# Altium schematic symbol library ST.SchLib: 178 symbols (part 2 of 2)
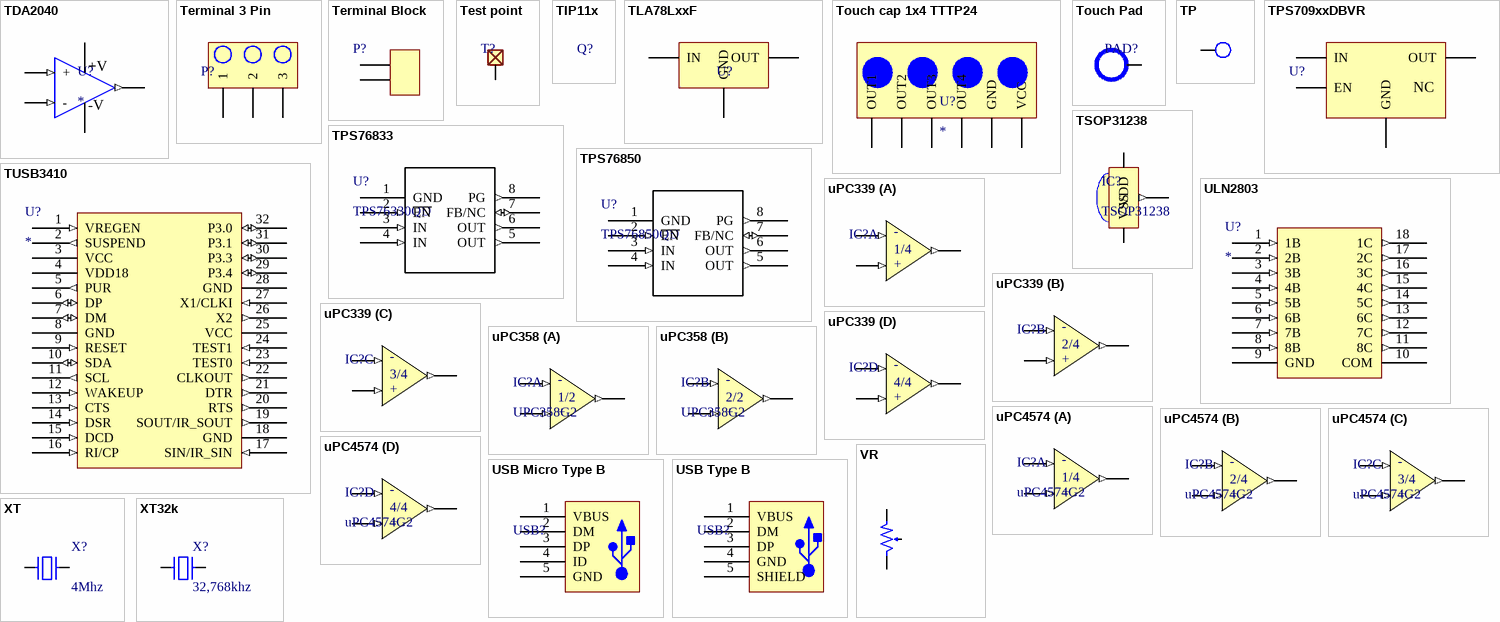
[diagram p6: symbols TDA2040 to XT32k]

## TUSB3410
designator U?
Manufacturer_Part_Number: TUSB3410_VF_32; GENERIC_PART_NUMBER: TUSB3410; Vendor: Texas Instruments; PACKAGE_DESIGNATOR: VF; PIN_COUNT: 32; FAMILY_NAME: USB PERIPHERAL; INDUSTRY_STD_PKG_TYPE: LQFP; Datasheet URL: http://www.ti.com/lit/gpn/TUSB3410; Manufacturer: Texas Instruments; RefDes: RefDes; Type: DEV; Value: Value
footprint LQFP 32pin
pins: 1 VREGEN (in), 2 SUSPEND (out), 3 VCC (power), 4 VDD18 (power), 5 PUR (out), 6 DP (io), 7 DM (io), 8 GND (power), 9 RESET (in), 10 SDA (io), 11 SCL (out), 12 WAKEUP (in), 13 CTS (in), 14 DSR (in), 15 DCD (in), 16 RI/CP (in), 17 SIN/IR_SIN (in), 18 GND (power), 19 SOUT/IR_SOUT (out), 20 RTS (out), 21 DTR (out), 22 CLKOUT (out), 23 TEST0 (in), 24 TEST1 (in), 25 VCC (power), 26 X2 (out), 27 X1/CLKI (in), 28 GND (power), 29 P3.4 (io), 30 P3.3 (io), 31 P3.1 (io), 32 P3.0 (io)

## ULN2803
designator U?
Manufacturer: Texas Instruments; GENERIC_PART_NUMBER: ULN2803A; INDUSTRY_STD_PKG_TYPE: SOIC; FAMILY_NAME: PERIPHERAL DRIVER AND ACTUATOR; PIN_COUNT: 18; PACKAGE_DESIGNATOR: DW; Datasheet URL: http://www.ti.com/lit/gpn/ULN2803A; RefDes: RefDes; Type: DEV; Value: Value
footprint SOIC16
footprint DIP18/W0.3 (18 PIN, W 300mil, Pin to pin 100mil)
pins: 1 1B (in), 2 2B (in), 3 3B (in), 4 4B (in), 5 5B (in), 6 6B (in), 7 7B (in), 8 8B (in), 9 GND (power), 10 COM, 11 8C (out), 12 7C (out), 13 6C (out), 14 5C (out), 15 4C (out), 16 3C (out), 17 2C (out), 18 1C (out)

## uPC339
designator IC?, comment UPC339G2  (value not drawn)
BIPOLAR ANALOG INTEGRATED CIRCUIT; Manufacturer: NEC; Specification: LOW POWER QUAD COMPARATOR; Manufacturer No: UPC339G2
footprint SOP14 (SOP, 14-Leads, Body 10.46x4.40mm, Pitch 1.27mm, IPC Medium Density)
part A pins: 2 (out), 4 (in), 5 (in)
part B pins: 1 (out), 6 (in), 7 (in)
part C pins: 8 (in), 9 (in), 14 (out)
part D pins: 3 hidden to V+, 10 (in), 11 (in), 12 hidden to V-, 13 (out)
part A text: -; 1/4; +
part B text: -; 2/4; +
part C text: -; 3/4; +
part D text: -; 4/4; +

## uPC358
designator IC?, comment UPC358G2
BIPOLAR ANALOG INTEGRATED CIRCUIT; Manufacturer: NEC; Specification: LOW POWER DUAL OPERATIONAL AMPLIFIERS; Manufacturer No: UPC358G2
footprint SOP8
part A pins: 1 (out), 2 (in), 3 (in)
part B pins: 4 V- hidden to V-, 5 (in), 6 (in), 7 (out), 8 V+ hidden to V+
part A text: -; 1/2; +
part B text: -; 2/2; +

## uPC4574
designator IC?, comment uPC4574G2
BIPOLAR ANALOG INTEGRATED CIRCUIT; Manufacturer: NEC; Specification: QUAD ULTRA LOW-NOISE, WIDEBAND, OPERATIONAL AMPLIFIER; Manufacturer No: uPC4574G2
footprint SOP14 (SOP, 14-Leads, Body 10.46x4.40mm, Pitch 1.27mm, IPC Medium Density)
part A pins: 1 (out), 2 (in), 3 (in)
part B pins: 5 (in), 6 (in), 7 (out)
part C pins: 8 (out), 9 (in), 10 (in)
part D pins: 4 hidden to V+, 11 hidden to V-, 12 (in), 13 (in), 14 (out)
part A text: -; 1/4; +
part B text: -; 2/4; +
part C text: -; 3/4; +
part D text: -; 4/4; +

## USB Micro Type B
designator USB?  (value not drawn)
footprint USB Micro (Type B Famale)
pins: 0 Shield hidden to GND, 1 VBUS, 2 DM, 3 DP, 4 ID, 5 GND

## USB Type B
designator USB?  (value not drawn)
footprint USB-B (USB B connector, 4pin, For Print)
pins: 0 Shield hidden to GND, 1 VBUS, 2 DM, 3 DP, 4 GND, 5 SHIELD

## VR
designator VR?, comment 10k
Trimpot Trimming Potentiometer; Manufacturer No: 3006Y1103ZLF; Manufacturer: BOURNS; Value: 10k; Specification: ="Trimpot Trimming Potentiometer " +"Value"
footprint Trimpot Trimming Potentiometer
footprint POTENTIOMETER
footprint Potentiometer volume
footprint VR (Resistor Variable)
pins: 1, 2, 3

## XT
designator X?, comment 4Mhz
Crystal For all Crystal 2pin.; Value: 4Mhz
footprint XT2 SMD (Footpin for Crystal 2 pin)
footprint XT2 (Footpin for Crystal 2 pin)
pins: 1, 2

## XT32k
designator X?, comment 32,768khz
Crystal 32,768kHz for timer real; Manufacturer: KDS; Manufacturer No: DT-26; Value: 32,768khz; Specification: Crystal 32,768kHz for timer real
footprint XTAL 32kHz
pins: 1, 2, 3 hidden to GND